# EAGLE library part 741-246 (library con-wago_741)
Serie 741, Durchführungsklemmenleiste 2 Lötstifte/Pol / Series 741, Feedthrough terminal strip 2 solder pins/pole Polzahl / Pole No.: 16 Rastermaß / Pitch: 5.08 mm Bemessungsspannung / Rated Voltage: 320 V Nennstrom / Nominal Current: 16 A Leiterquerschnitt / Conductor Size: 0.08 - 2.5 mm² Anschlusstechnik / Connection Technology: CAGE CLAMP® Lötstiftlänge: / Solder Pin Length: 4 mm Leitereinführung (zur Platine) / Conductor entry angle (to PCB): 0 ° Farbe / Color: orange / orange Stand: 01.01.2012. Die jeweils aktuellen Daten zu diesem Artikel finden Sie in unserem Produktkatalog, den Sie unter www.wago.com einsehen können. As of: 01/01/2012. Please find the newest data for this article in our product catalogue, which can be viewed under www.wago.com.
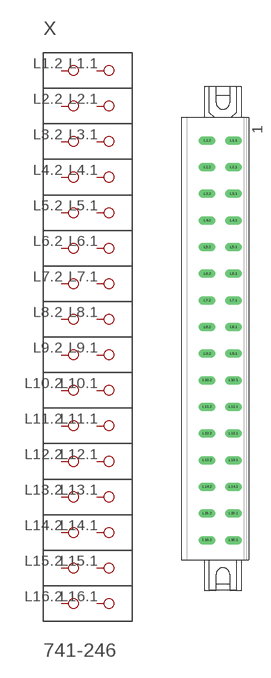
[diagram p66: symbol with the pads of P-741-246; footprint P-741-246]

Designator prefix X

## 741-246  [P-741-246]
L1.1  P1.1
L1.2  P1.2
L2.1  P2.1
L2.2  P2.2
L3.1  P3.1
L3.2  P3.2
L4.1  P4.1
L4.2  P4.2
L5.1  P5.1
L5.2  P5.2
L6.1  P6.1
L6.2  P6.2
L7.1  P7.1
L7.2  P7.2
L8.1  P8.1
L8.2  P8.2
L9.1  P9.1
L9.2  P9.2
L10.1  P10.1
L10.2  P10.2
L11.1  P11.1
L11.2  P11.2
L12.1  P12.1
L12.2  P12.2
L13.1  P13.1
L13.2  P13.2
L14.1  P14.1
L14.2  P14.2
L15.1  P15.1
L15.2  P15.2
L16.1  P16.1
L16.2  P16.2

## Footprint P-741-246 (pad centres in mm)
drill 1.1 long: L1.1 3.5,37.79; L1.2 -1.5,37.79; L2.1 3.5,32.71; L2.2 -1.5,32.71; L3.1 3.5,27.63; L3.2 -1.5,27.63; L4.1 3.5,22.55; L4.2 -1.5,22.55; L5.1 3.5,17.47; L5.2 -1.5,17.47; L6.1 3.5,12.39; L6.2 -1.5,12.39; L7.1 3.5,7.31; L7.2 -1.5,7.31; L8.1 3.5,2.23; L8.2 -1.5,2.23; L9.1 3.5,-2.85; L9.2 -1.5,-2.85; L10.1 3.5,-7.93; L10.2 -1.5,-7.93; L11.1 3.5,-13.01; L11.2 -1.5,-13.01; L12.1 3.5,-18.09; L12.2 -1.5,-18.09; L13.1 3.5,-23.17; L13.2 -1.5,-23.17; L14.1 3.5,-28.25; L14.2 -1.5,-28.25; L15.1 3.5,-33.33; L15.2 -1.5,-33.33; L16.1 3.5,-38.41; L16.2 -1.5,-38.41